# EAGLE library part BQ24040 (library Bjorn4)
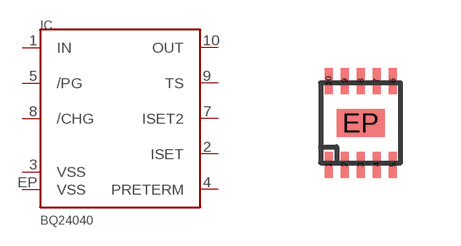
[diagram p1: symbol with the pads of WSON10_2X2MM; footprint WSON10_2X2MM]

Designator prefix IC

## BQ24040  [WSON10_2X2MM]
1  IN
2  ISET
3  VSS
4  PRETERM
5  /PG
7  ISET2
8  /CHG
9  TS
10  OUT
EP  VSS

## Footprint WSON10_2X2MM (pad centres in mm)
smd 0.2 x 0.65: 1 -0.8,-1.05; 2 -0.4,-1.05; 3 0,-1.05; 4 0.4,-1.05; 5 0.8,-1.05; 6 0.8,1.05; 7 0.4,1.05; 8 0,1.05; 9 -0.4,1.05; 10 -0.8,1.05
smd 1.2 x 0.7: EP 0,0